# EAGLE library part SA602 (library custom)
RF Mixer 500MHz 17dB Gain 5dB NF Upconverter 2.4mA 4.5-8V
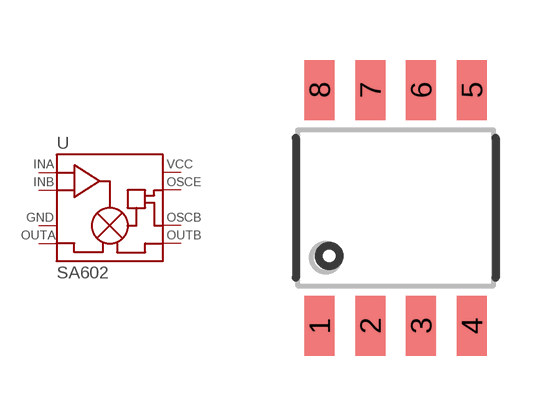
[diagram p70: symbol with the pads of 8-SOIC; footprint 8-SOIC]

Designator prefix U

## SA602  [8-SOIC]
1  INA
2  INB
3  GND
4  OUTA
5  OUTB
6  OSCB
7  OSCE
8  VCC

## Footprint 8-SOIC (pad centres in mm)
smd 0.75 x 1.5: 1 -1.905,-2.95; 2 -0.635,-2.95; 3 0.635,-2.95; 4 1.905,-2.95; 5 1.905,2.95; 6 0.635,2.95; 7 -0.635,2.95; 8 -1.905,2.95